# Altium schematic symbol library SCH - CONNECTORS - SAMTEC -TSW-102-07-G-D.SchLib: 1 symbol
Pins are listed as number, name and electrical type; pins without a type are passive.

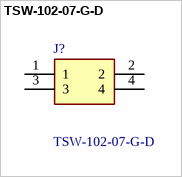
[diagram p0: symbol TSW-102-07-G-D]

## TSW-102-07-G-D
designator J?
4 Position, Classic PCB Header Strips, 0.100&quot; pitch; Manufacturer_Name: SAMTEC; Geometry.Height: 8.38mm; Mouser Part Number: 200-TSW10207GD; Mouser Price/Stock: https://www.mouser.co.uk/ProductDetail/Samtec/TSW-102-07-G-D?qs=rHlcMk0NooKIxxRjDbkUJA%3D%3D; Manufacturer_Part_Number: TSW-102-07-G-D; Datasheet Link: https://suddendocs.samtec.com/catalog_english/tsw_th.pdf
footprint HDRV4W64P254_2X2_508X508X838P
pins: 1, 2, 3, 4